# Altium schematic symbol library vod.SCHLIB: 35 symbols
Pins are listed as number, name and electrical type; pins without a type are passive.

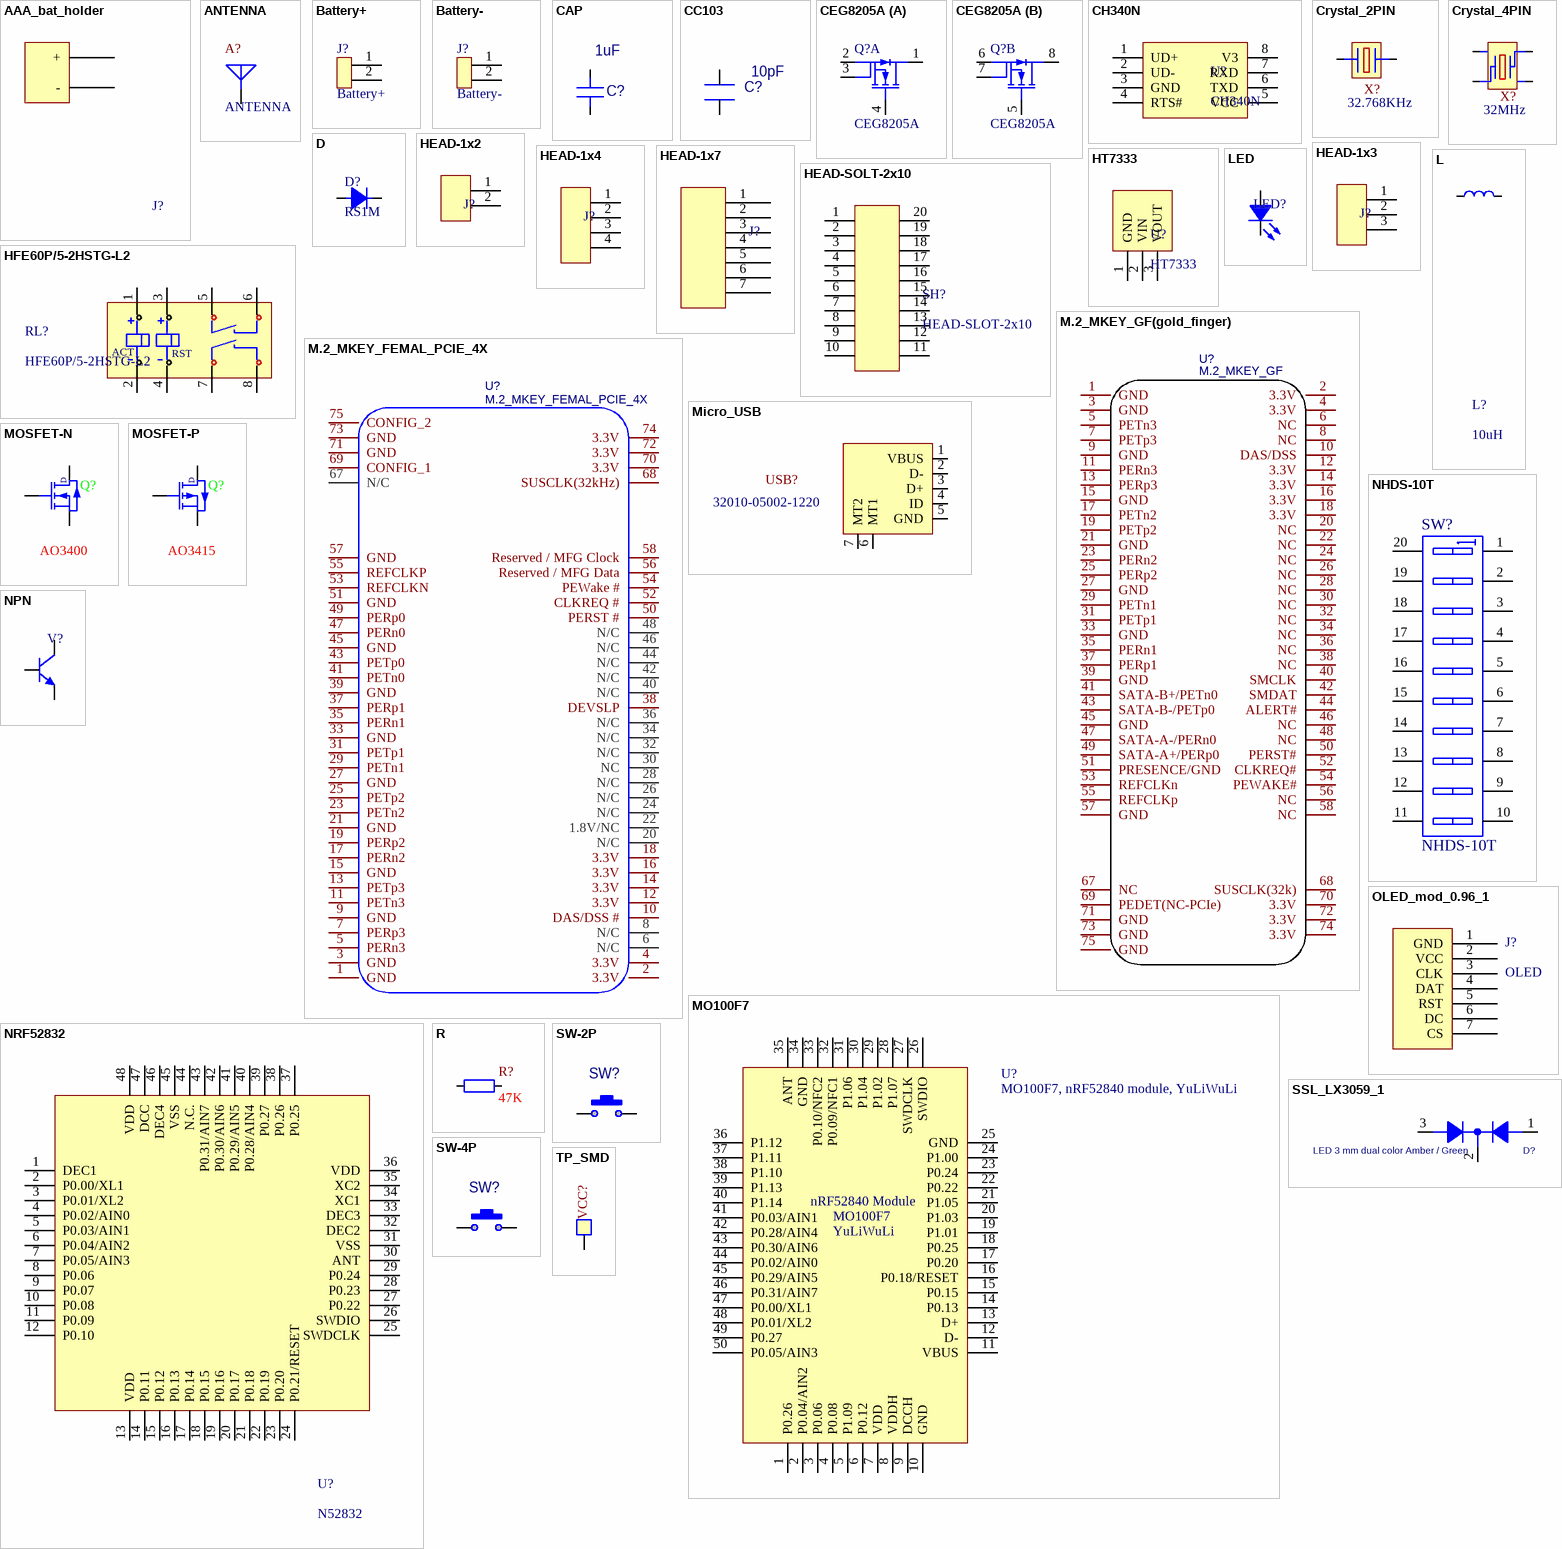
[diagram p0: symbols AAA_bat_holder to TP_SMD]

## AAA_bat_holder
designator J?  (value not drawn)
footprint AAA_bat_holder
pins: 1 +, 2 -

## ANTENNA
designator A?
PCB Antenna
footprint AN1 (Antenna pad)
footprint AN2
pins: 1 A

## Battery+
designator J?
footprint Battery pad_P
pins: 1, 2

## Battery-
designator J?
footprint Battery pad_N
pins: 1, 2

## CAP
designator C?, comment 1uF
footprint cap0603(1608) (Chip capcitance, Body 1.6x0.8mm, IPC Medium Density)
footprint 0603
pins: 1, 2

## CC103
designator C?, comment 10pF
footprint cap0603(1608) (Chip capcitance, Body 1.6x0.8mm, IPC Medium Density)
pins: 1, 2

## CEG8205A
designator Q?
footprint TSOP65P640X120-8N (TSOP, 8-Leads, Body 3.00x4.40mm, Pitch 0.65mm, IPC Medium Density)
part A pins: 1 D, 2 S1, 3 S1, 4 G1
part B pins: 5 G2, 6 S2, 7 S2, 8 D

## CH340N
designator U?
footprint CH340N
pins: 1 UD+, 2 UD-, 3 GND, 4 RTS#, 5 VCC, 6 TXD, 7 RXD, 8 V3

## Crystal_2PIN
designator X?, comment 32.768KHz
footprint 32.768_A
pins: 1 IN, 2 OUT

## Crystal_4PIN
designator X?, comment 32MHz
footprint X3225-4PIN
pins: 1 IN, 2 nc, 3 OUT, 4 nc

## D
designator D?, comment RS1M
footprint DO-214AC(SMA)
pins: 1 A, 2 K

## HEAD-1x2
designator J?  (value not drawn)
footprint HEAD-1x2-2.54
pins: 1, 2

## HEAD-1x3
designator J?  (value not drawn)
footprint HEAD-1x3-2.54
pins: 1, 2, 3

## HEAD-1x4
designator J?  (value not drawn)
footprint HEAD-1x4-2.54
footprint HEAD-1x4-2.54-SMD
pins: 1, 2, 3, 4

## HEAD-1x7
designator J?  (value not drawn)
footprint HEAD-1x7-2.54
pins: 1, 2, 3, 4, 5, 6, 7

## HEAD-SOLT-2x10
designator SH?, comment HEAD-SLOT-2x10
footprint HEAD_SLOT-2x10-L8.8-2.54
pins: 1, 2, 3, 4, 5, 6, 7, 8, 9, 10, 11, 12, 13, 14, 15, 16, 17, 18, 19, 20

## HFE60P/5-2HSTG-L2
designator RL?
footprint HFE60
pins: 1 ACT+, 2 ACT-, 3 RST+, 4 RST-, 5 H1_1, 6 H1_2, 7 H2_1, 8 H2_2
text: ACT; RST

## HT7333
designator U?
footprint HT7333-SOT-89
pins: 1 GND, 2 VIN, 3 VOUT

## L
designator L?, comment 10uH
footprint 0603
pins: 1, 2

## LED
designator LED?  (value not drawn)
footprint led_3mm (LED_3MM)
footprint LED-0603-SMD
pins: 1 A, 2 K

## M.2_MKEY_FEMAL_PCIE_4X
designator U?
BOM_Manufacturer Part: M.2 M key fingers; Contributor: riverliu; BOM_Supplier Part: SHOWNAME=F; BOM_Supplier: SHOWNAME=F; spicePre: U; spiceSymbolName: M.2_MKEY_FEMAL_PCIE_4X
footprint M.2_M_KEY_BASE
pins: 1 GND, 2 3.3V, 3 GND, 4 3.3V, 5 PERn3, 6 N/C, 7 PERp3, 8 N/C, 9 GND, 10 DAS/DSS #, 11 PETn3, 12 3.3V, 13 PETp3, 14 3.3V, 15 GND, 16 3.3V, 17 PERn2, 18 3.3V, 19 PERp2, 20 N/C, 21 GND, 22 1.8V/NC, 23 PETn2, 24 N/C, 25 PETp2, 26 N/C, 27 GND, 28 N/C, 29 PETn1, 30 NC, 31 PETp1, 32 N/C, 33 GND, 34 N/C, 35 PERn1, 36 N/C, 37 PERp1, 38 DEVSLP, 39 GND, 40 N/C, 41 PETn0, 42 N/C, 43 PETp0, 44 N/C, 45 GND, 46 N/C, 47 PERn0, 48 N/C, 49 PERp0, 50 PERST #, 51 GND, 52 CLKREQ #, 53 REFCLKN, 54 PEWake #, 55 REFCLKP, 56 Reserved / MFG Data, 57 GND, 58 Reserved / MFG Clock, 67 N/C, 68 SUSCLK(32kHz), 69 CONFIG_1, 70 3.3V, 71 GND, 72 3.3V, 73 GND, 74 3.3V, 75 CONFIG_2

## M.2_MKEY_GF(gold_finger)
designator U?, comment M.2_MKEY_GF
BOM_Manufacturer: SHOWNAME=F; Contributor: redgragon; BOM_Manufacturer Part: SHOWNAME=F; BOM_Supplier Part: SHOWNAME=F; BOM_Supplier: SHOWNAME=F; link: SHOWNAME=F; spicePre: U; spiceSymbolName: GF_M.2_MKEY
footprint M.2_M_KEY_GF
pins: 1 GND, 2 3.3V, 3 GND, 4 3.3V, 5 PETn3, 6 NC, 7 PETp3, 8 NC, 9 GND, 10 DAS/DSS, 11 PERn3, 12 3.3V, 13 PERp3, 14 3.3V, 15 GND, 16 3.3V, 17 PETn2, 18 3.3V, 19 PETp2, 20 NC, 21 GND, 22 NC, 23 PERn2, 24 NC, 25 PERp2, 26 NC, 27 GND, 28 NC, 29 PETn1, 30 NC, 31 PETp1, 32 NC, 33 GND, 34 NC, 35 PERn1, 36 NC, 37 PERp1, 38 NC, 39 GND, 40 SMCLK, 41 SATA-B+/PETn0, 42 SMDAT, 43 SATA-B-/PETp0, 44 ALERT#, 45 GND, 46 NC, 47 SATA-A-/PERn0, 48 NC, 49 SATA-A+/PERp0, 50 PERST#, 51 PRESENCE/GND, 52 CLKREQ#, 53 REFCLKn, 54 PEWAKE#, 55 REFCLKp, 56 NC, 57 GND, 58 NC, 67 NC, 68 SUSCLK(32k), 69 PEDET(NC-PCIe), 70 3.3V, 71 GND, 72 3.3V, 73 GND, 74 3.3V, 75 GND

## Micro_USB
designator USB?, comment 32010-05002-1220
Micro_USB_5S_B
footprint MICRO USB
pins: 1 VBUS, 2 D-, 3 D+, 4 ID, 5 GND, 6 MT1, 7 MT2

## MO100F7
designator U?, comment MO100F7, nRF52840 module, YuLiWuLi
footprint MO100F7
pins: 1 P0.26, 2 P0.04/AIN2, 3 P0.06, 4 P0.08, 5 P1.09, 6 P0.12, 7 VDD, 8 VDDH, 9 DCCH, 10 GND, 11 VBUS, 12 D-, 13 D+, 14 P0.13, 15 P0.15, 16 P0.18/RESET, 17 P0.20, 18 P0.25, 19 P1.01, 20 P1.03, 21 P1.05, 22 P0.22, 23 P0.24, 24 P1.00, 25 GND, 26 SWDIO, 27 SWDCLK, 28 P1.07, 29 P1.02, 30 P1.04, 31 P1.06, 32 P0.09/NFC1, 33 P0.10/NFC2, 34 GND, 35 ANT, 36 P1.12, 37 P1.11, 38 P1.10, 39 P1.13, 40 P1.14, 41 P0.03/AIN1, 42 P0.28/AIN4, 43 P0.30/AIN6, 44 P0.02/AIN0, 45 P0.29/AIN5, 46 P0.31/AIN7, 47 P0.00/XL1, 48 P0.01/XL2, 49 P0.27, 50 P0.05/AIN3
text: nRF52840 Module; YuLiWuLi

## MOSFET-N
designator Q?, comment AO3400
footprint SOT-23-mosfet (SOT-23, 3-Leads, Body 3,0x2,6mm (max), Pitch 0,95mm, IPC Medium Density)
pins: D, G, S

## MOSFET-P
designator Q?, comment AO3415
footprint SOT-23-mosfet (SOT-23, 3-Leads, Body 3,0x2,6mm (max), Pitch 0,95mm, IPC Medium Density)
pins: D, G, S

## NHDS-10T
designator SW?
footprint NHDS-10T
pins: 1 A1, 2 A2, 3 A3, 4 A4, 5 A5, 6 A6, 7 A7, 8 A8, 9 A9, 10 A10, 11 B10, 12 B9, 13 B8, 14 B7, 15 B6, 16 B5, 17 B4, 18 B3, 19 B2, 20 B1

## NPN
designator V?
footprint SOT-416 (SOT-416, 3-Leads, Body 1.60x1.60mm, Pitch 0.50mm, IPC Medium Density)
footprint SOT-23-NPN
pins: B, C, E

## NRF52832
designator U?, comment N52832
footprint N52832-QFN48
pins: 1 DEC1, 2 P0.00/XL1, 3 P0.01/XL2, 4 P0.02/AIN0, 5 P0.03/AIN1, 6 P0.04/AIN2, 7 P0.05/AIN3, 8 P0.06, 9 P0.07, 10 P0.08, 11 P0.09, 12 P0.10, 13 VDD, 14 P0.11, 15 P0.12, 16 P0.13, 17 P0.14, 18 P0.15, 19 P0.16, 20 P0.17, 21 P0.18, 22 P0.19, 23 P0.20, 24 P0.21/RESET, 25 SWDCLK, 26 SWDIO, 27 P0.22, 28 P0.23, 29 P0.24, 30 ANT, 31 VSS, 32 DEC2, 33 DEC3, 34 XC1, 35 XC2, 36 VDD, 37 P0.25, 38 P0.26, 39 P0.27, 40 P0.28/AIN4, 41 P0.29/AIN5, 42 P0.30/AIN6, 43 P0.31/AIN7, 44 N.C., 45 VSS, 46 DEC4, 47 DCC, 48 VDD

## OLED_mod_0.96_1
designator J?, comment OLED
footprint OLED_mod_0.96_1
pins: 1 GND, 2 VCC, 3 CLK, 4 DAT, 5 RST, 6 DC, 7 CS

## R
designator R?, comment 47K
footprint 0603
pins: 1, 2

## SSL_LX3059_1
designator D?, comment LED 3 mm dual color Amber / Green
Number devices in Package: 1; OriginalSymbolOrigin: (0,0); CLASS: IC; PCB_dir: 0.000000; PCB_loc: TOP; PCB_y: 23.500000; Part Number: SEMI-0111; PCB_x: 0.000000
footprint ledrd254w4300d400
pins: 1 ANODE2, 2 CATHODE, 3 ANODE1

## SW-2P
designator SW?  (value not drawn)
footprint SW_2PIN_3x6
pins: 1, 2

## SW-4P
designator SW?  (value not drawn)
footprint SW_4PIN_6x6
pins: 1, 2, 3, 4

## TP_SMD
designator VCC?  (value not drawn)
Test point, 1.0 mm SMD; Publisher: i3tex; Part Number: TP_SMD; Value: TP_SMD; Mounting: SMD
footprint TP_SMD_1.5 (SMD TP, 1.5mm diameter)
pins: 1